# EAGLE library part MSP432P401MIRGCT (library Microcontroller)
IC MCU 32BIT 128KB FLASH 64VQFN Manufacturer's datasheet <http://www.ti.com/lit/ds/symlink/msp432p401m.pdf>
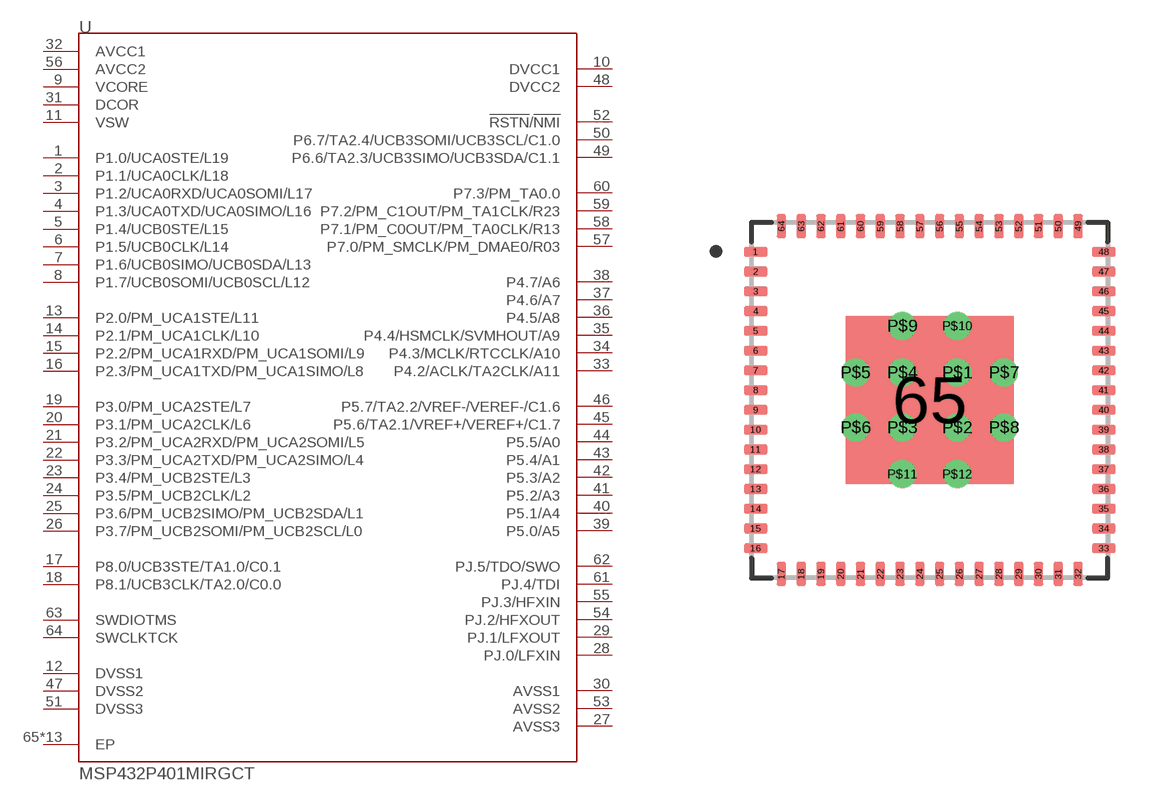
[diagram p13: symbol with the pads of VQFN64; footprint VQFN64]

Designator prefix U

## MSP432P401MIRGCT (CREATED_BY: PCBLayout.com; DIGIKEY_PARTNO: 296-45486-2-ND; MANUFACTURER: Texas Instruments; MPN: MSP432P401MIRGCT; PACKAGE: 64-VQFN)  [VQFN64]
1  P1.0/UCA0STE/L19
2  P1.1/UCA0CLK/L18
3  P1.2/UCA0RXD/UCA0SOMI/L17
4  P1.3/UCA0TXD/UCA0SIMO/L16
5  P1.4/UCB0STE/L15
6  P1.5/UCB0CLK/L14
7  P1.6/UCB0SIMO/UCB0SDA/L13
8  P1.7/UCB0SOMI/UCB0SCL/L12
9  VCORE  pwr
10  DVCC1  pwr
11  VSW  pwr
12  DVSS1  pwr
13  P2.0/PM_UCA1STE/L11
14  P2.1/PM_UCA1CLK/L10
15  P2.2/PM_UCA1RXD/PM_UCA1SOMI/L9
16  P2.3/PM_UCA1TXD/PM_UCA1SIMO/L8
17  P8.0/UCB3STE/TA1.0/C0.1
18  P8.1/UCB3CLK/TA2.0/C0.0
19  P3.0/PM_UCA2STE/L7
20  P3.1/PM_UCA2CLK/L6
21  P3.2/PM_UCA2RXD/PM_UCA2SOMI/L5
22  P3.3/PM_UCA2TXD/PM_UCA2SIMO/L4
23  P3.4/PM_UCB2STE/L3
24  P3.5/PM_UCB2CLK/L2
25  P3.6/PM_UCB2SIMO/PM_UCB2SDA/L1
26  P3.7/PM_UCB2SOMI/PM_UCB2SCL/L0
27  AVSS3  pwr
28  PJ.0/LFXIN
29  PJ.1/LFXOUT
30  AVSS1  pwr
31  DCOR  pwr
32  AVCC1  pwr
33  P4.2/ACLK/TA2CLK/A11
34  P4.3/MCLK/RTCCLK/A10
35  P4.4/HSMCLK/SVMHOUT/A9
36  P4.5/A8
37  P4.6/A7
38  P4.7/A6
39  P5.0/A5
40  P5.1/A4
41  P5.2/A3
42  P5.3/A2
43  P5.4/A1
44  P5.5/A0
45  P5.6/TA2.1/VREF+/VEREF+/C1.7
46  P5.7/TA2.2/VREF-/VEREF-/C1.6
47  DVSS2  pwr
48  DVCC2  pwr
49  P6.6/TA2.3/UCB3SIMO/UCB3SDA/C1.1
50  P6.7/TA2.4/UCB3SOMI/UCB3SCL/C1.0
51  DVSS3  pwr
52  !RSTN!/!NMI  in
53  AVSS2
54  PJ.2/HFXOUT
55  PJ.3/HFXIN
56  AVCC2  pwr
57  P7.0/PM_SMCLK/PM_DMAE0/R03
58  P7.1/PM_C0OUT/PM_TA0CLK/R13
59  P7.2/PM_C1OUT/PM_TA1CLK/R23
60  P7.3/PM_TA0.0
61  PJ.4/TDI
62  PJ.5/TDO/SWO
63  SWDIOTMS
64  SWCLKTCK
65  EP  pwr
P$1  EP  pwr
P$2  EP  pwr
P$3  EP  pwr
P$4  EP  pwr
P$5  EP  pwr
P$6  EP  pwr
P$7  EP  pwr
P$8  EP  pwr
P$9  EP  pwr
P$10  EP  pwr
P$11  EP  pwr
P$12  EP  pwr

## Footprint VQFN64 (pad centres in mm)
smd 0.6 x 0.24: 1 -4.4,3.75; 2 -4.4,3.25; 3 -4.4,2.75; 4 -4.4,2.25; 5 -4.4,1.75; 6 -4.4,1.25; 7 -4.4,0.75; 8 -4.4,0.25; 9 -4.4,-0.25; 10 -4.4,-0.75; 11 -4.4,-1.25; 12 -4.4,-1.75; 13 -4.4,-2.25; 14 -4.4,-2.75; 15 -4.4,-3.25; 16 -4.4,-3.75; 33 4.4,-3.75; 34 4.4,-3.25; 35 4.4,-2.75; 36 4.4,-2.25; 37 4.4,-1.75; 38 4.4,-1.25; 39 4.4,-0.75; 40 4.4,-0.25; 41 4.4,0.25; 42 4.4,0.75; 43 4.4,1.25; 44 4.4,1.75; 45 4.4,2.25; 46 4.4,2.75; 47 4.4,3.25; 48 4.4,3.75
smd 0.24 x 0.6: 17 -3.75,-4.4; 18 -3.25,-4.4; 19 -2.75,-4.4; 20 -2.25,-4.4; 21 -1.75,-4.4; 22 -1.25,-4.4; 23 -0.75,-4.4; 24 -0.25,-4.4; 25 0.25,-4.4; 26 0.75,-4.4; 27 1.25,-4.4; 28 1.75,-4.4; 29 2.25,-4.4; 30 2.75,-4.4; 31 3.25,-4.4; 32 3.75,-4.4; 49 3.75,4.4; 50 3.25,4.4; 51 2.75,4.4; 52 2.25,4.4; 53 1.75,4.4; 54 1.25,4.4; 55 0.75,4.4; 56 0.25,4.4; 57 -0.25,4.4; 58 -0.75,4.4; 59 -1.25,4.4; 60 -1.75,4.4; 61 -2.25,4.4; 62 -2.75,4.4; 63 -3.25,4.4; 64 -3.75,4.4
smd 4.25 x 4.25: 65 0,0
drill 0.2 pad 0.4: P$1 0.695,0.695; P$2 0.695,-0.695; P$3 -0.695,-0.695; P$4 -0.695,0.695; P$5 -1.875,0.695; P$6 -1.875,-0.695; P$7 1.875,0.695; P$8 1.875,-0.695; P$9 -0.695,1.875; P$10 0.695,1.875; P$11 -0.695,-1.875; P$12 0.695,-1.875